# EAGLE library part USB+SHIELD (library OSURC_Connectors)
USB+Shield USB connector with shield pins connectable
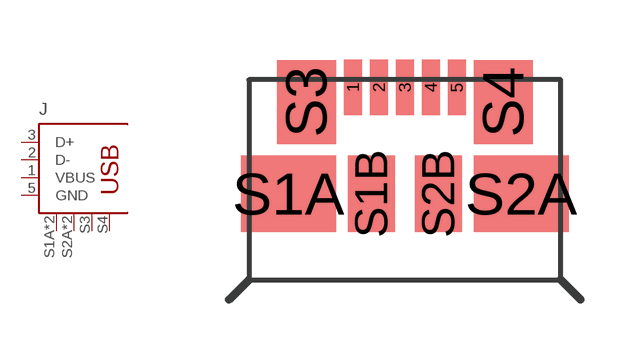
[diagram p1: symbol with the pads of USB-MICROB-SMD-MOLEX; footprint USB-MICROB-SMD-MOLEX]

Designator prefix J

## USB+SHIELD-MICROB-SMD-MOLEX (DIGIKEY_PN: WM17141CT-ND)  [USB-MICROB-SMD-MOLEX]
1  VBUS
2  D-
3  D+
5  GND
S1A  S1
S1B  S1
S2A  S2
S2B  S2
S3  S3
S4  S4

## Footprint USB-MICROB-SMD-MOLEX (pad centres in mm)
SMD USB micro-B connector from Molex. Shield tabs are SMD, as well. See B-type for PTH tabs that are more mechanically sound.
smd 0.45 x 1.38: 1 -1.3,2.66; 2 -0.65,2.66; 3 0,2.66; 4 0.65,2.66; 5 1.3,2.66
smd 2.375 x 1.9: S1A -2.913,0; S2A 2.913,0
smd 1.175 x 1.9: S1B -0.838,0; S2B 0.838,0
smd 1.475 x 2.1: S3 -2.462,2.3; S4 2.462,2.3